# Altium schematic symbol library DF13C-6P-1.25V(50).Schlib: 1 symbol
Pins are listed as number, name and electrical type; pins without a type are passive.

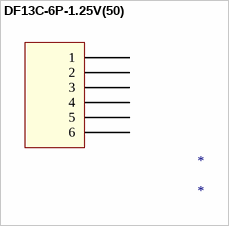
[diagram p0: symbol DF13C-6P-1.25V(50)]

## DF13C-6P-1.25V(50)
designator *
CONN SM DF13C 6P
pins: 1, 2, 3, 4, 5, 6